# EAGLE library part WIPPSCHALTER_SCHWARZ_5WEGE (library Alps_switch)
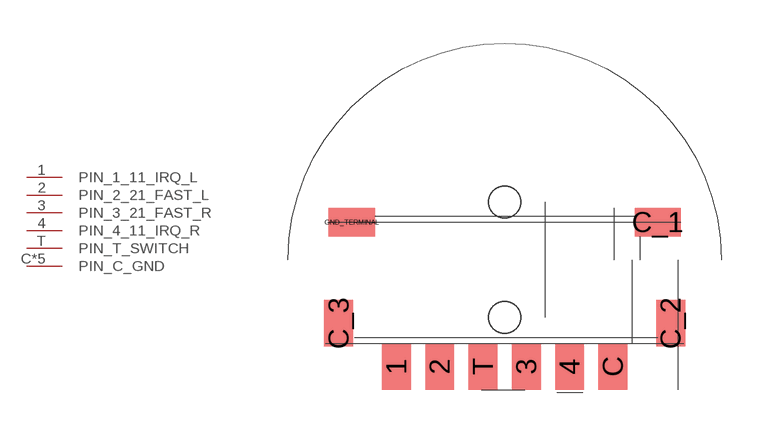
[diagram p0: symbol with the pads of SMD_SWITCH1; footprint SMD_SWITCH1]

Designator prefix -

## WIPPSCHALTER_SCHWARZ_5WEGE (LIEFERANT: MOUSER; LIEFERANT_ART_NR: 688-SLLB120300; MF: Alps; MP: SLLB120300)  [SMD_SWITCH1]
1  PIN_1_11_IRQ_L
2  PIN_2_21_FAST_L
3  PIN_3_21_FAST_R
4  PIN_4_11_IRQ_R
C  PIN_C_GND
C_1  PIN_C_GND
C_2  PIN_C_GND
C_3  PIN_C_GND
GND_TERMINAL  PIN_C_GND
T  PIN_T_SWITCH

## Footprint SMD_SWITCH1 (pad centres in mm)
smd 1 x 1.6: 1 -3.75,-3.7; 2 -2.25,-3.7; 3 0.75,-3.7; 4 2.25,-3.7; C 3.75,-3.7; C_2 5.75,-2.2; C_3 -5.75,-2.2; T -0.75,-3.7
smd 1.6 x 1: C_1 5.3,1.3; GND_TERMINAL -5.3,1.3
hole 1.1 at 0,-2
hole 1.1 at 0,2